# Altium schematic symbol library 9176-AVX.Schlib: 1 symbol
Pins are listed as number, name and electrical type; pins without a type are passive.

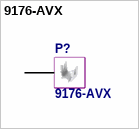
[diagram p0: symbol 9176-AVX]

## 9176-AVX
designator P?
Header, 2-Pin
pins: 1